# EAGLE library part 74AC16620 (library 74ac-logic)
16-bit BUS TRANSCEIVER, 3-state
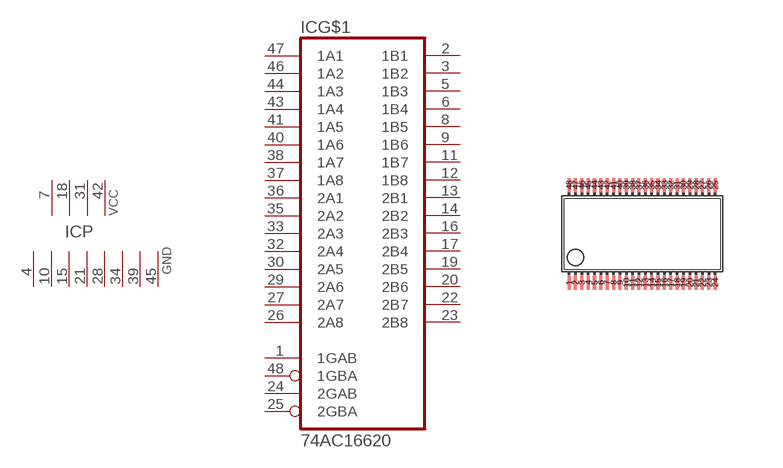
[diagram p70: symbol with the pads of SSOP48DL; footprint SSOP48DL]

Designator prefix IC; gates G$1=7416620 P=4PWR8GND

## 74AC16620  [SSOP48DL]
1  G$1:1GAB  in
2  G$1:1B1
3  G$1:1B2
4  P:GND  pwr
5  G$1:1B3
6  G$1:1B4
7  P:VCC  pwr
8  G$1:1B5
9  G$1:1B6
10  P:GND  pwr
11  G$1:1B7
12  G$1:1B8
13  G$1:2B1
14  G$1:2B2
15  P:GND  pwr
16  G$1:2B3
17  G$1:2B4
18  P:VCC  pwr
19  G$1:2B5
20  G$1:2B6
21  P:GND  pwr
22  G$1:2B7
23  G$1:2B8
24  G$1:2GAB  in
25  G$1:2GBA  in
26  G$1:2A8
27  G$1:2A7
28  P:GND  pwr
29  G$1:2A6
30  G$1:2A5
31  P:VCC  pwr
32  G$1:2A4
33  G$1:2A3
34  P:GND  pwr
35  G$1:2A2
36  G$1:2A1
37  G$1:1A8
38  G$1:1A7
39  P:GND  pwr
40  G$1:1A6
41  G$1:1A5
42  P:VCC  pwr
43  G$1:1A4
44  G$1:1A3
45  P:GND  pwr
46  G$1:1A2
47  G$1:1A1
48  G$1:1GBA  in

## Footprint SSOP48DL (pad centres in mm)
Shrink Small Outline Package
smd 0.076 x 0.356: 1 -1.746,-1.219; 2 -1.587,-1.219; 3 -1.429,-1.219; 4 -1.27,-1.219; 5 -1.111,-1.219; 6 -0.953,-1.219; 7 -0.794,-1.219; 8 -0.635,-1.219; 9 -0.476,-1.219; 10 -0.318,-1.219; 11 -0.159,-1.219; 12 0,-1.219; 13 0.159,-1.219; 14 0.318,-1.219; 15 0.476,-1.219; 16 0.635,-1.219; 17 0.794,-1.219; 18 0.953,-1.219; 19 1.111,-1.219; 20 1.27,-1.219; 21 1.429,-1.219; 22 1.587,-1.219; 23 1.746,-1.219; 24 1.905,-1.219; 25 1.905,1.219; 26 1.746,1.219; 27 1.587,1.219; 28 1.429,1.219; 29 1.27,1.219; 30 1.111,1.219; 31 0.953,1.219; 32 0.794,1.219; 33 0.635,1.219; 34 0.476,1.219; 35 0.318,1.219; 36 0.159,1.219; 37 0,1.219; 38 -0.159,1.219; 39 -0.318,1.219; 40 -0.476,1.219; 41 -0.635,1.219; 42 -0.794,1.219; 43 -0.953,1.219; 44 -1.111,1.219; 45 -1.27,1.219; 46 -1.429,1.219; 47 -1.587,1.219; 48 -1.746,1.219